# Altium schematic symbol library MK22FN128VDC10.SchLib: 2 symbols
Pins are listed as number, name and electrical type; pins without a type are passive.

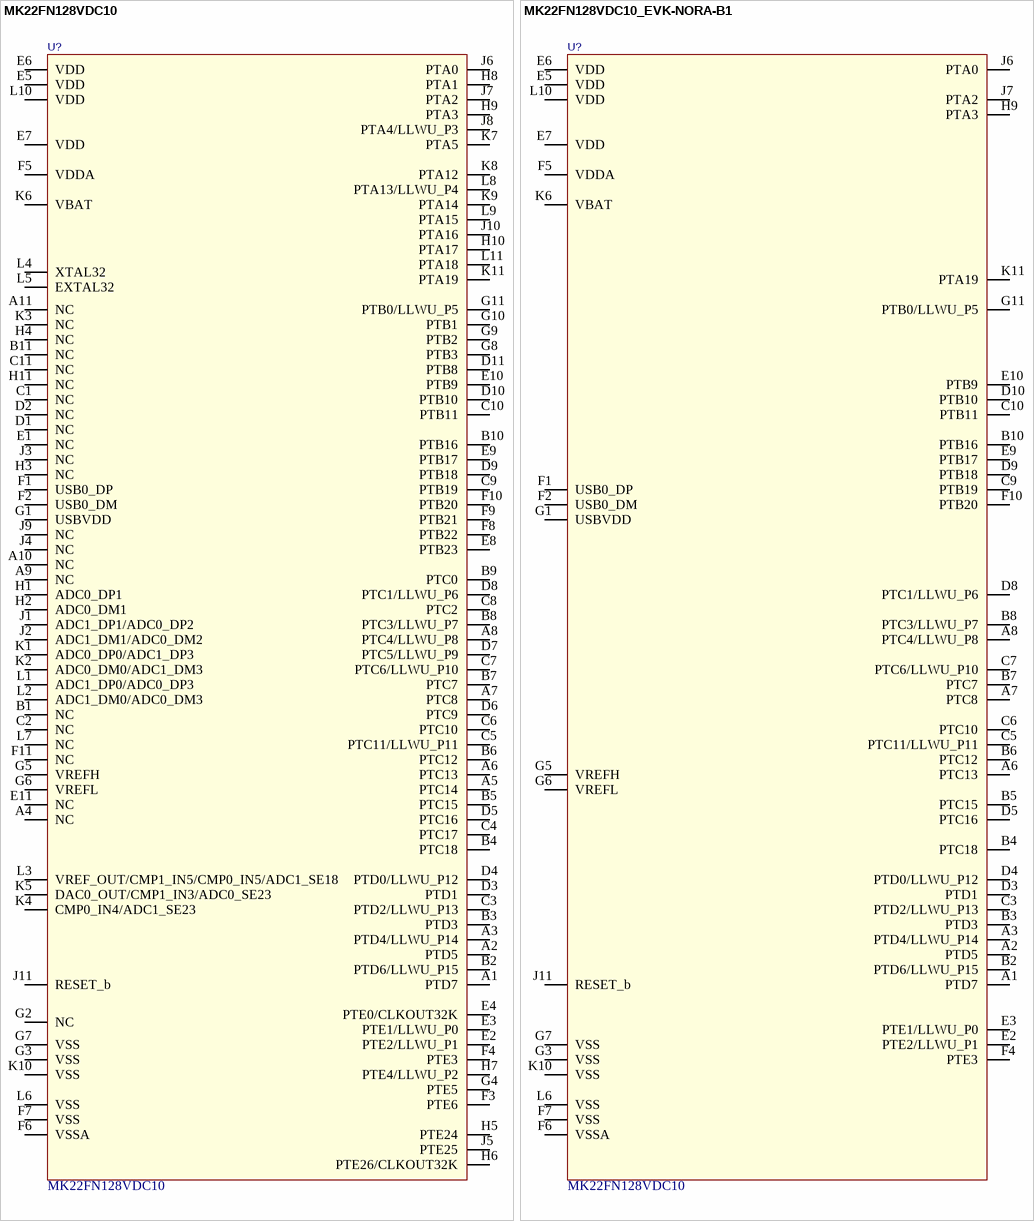
[diagram p0: symbols MK22FN128VDC10 to MK22FN128VDC10_EVK-NORA-B1]

## MK22FN128VDC10
designator U?
100MHz Cortex-M4F Performance MCU, 128kB Flash, 24kB SRAM, Full-Speed USB, BGA-121; Manufacturer: NXP; Part_Type: Microcontroller; Item_Phase: Unreleased; Body Size: 8mm x 8mm; Component Mounting Type: SMT; Core Bits: 32 Bit; Max Oper Temp in C: 105; MFG Package: XFBGA-121; Min Oper Temp in C: -40; SMT Pitch: 0.65mm; Use in new designs: Yes; Voltage: 3.6V; Manufacturer Part Number: MK22FN128VDC10; ComponentLink1URL: http://cache.freescale.com/files/microcontrollers/doc/data_sheet/K22P121M100SF9.pdf; ComponentLink1Description: Datasheet; ComponentLink2URL: https://cache.nxp.com/docs/en/package-information/98ASS23308W.pdf; ComponentLink2Description: Supplier link; HelpURL: *; Footprint Doc: XFBGA-121; Pin Count: 121; Value: MK22FN128VDC10; Note: *; Part Name: MK22FN128VDC10; Revision: 00; Manufacturer P/N: MK22FN128VDC10; Core Architecture: Cortex-M4F; Flash Size: 128kB; Package Type: XFBGA; Pins: 100; RAM Size: 24kB
footprint BGA0.5P8x8-121Ball (BGA 121Pin, 0.5mm pitch, 8mm x 8mm x 0.75mm, Medium Density)
pins: A1 PTD7, A2 PTD5, A3 PTD4/LLWU_P14, A4 NC, A5 PTC14, A6 PTC13, A7 PTC8, A8 PTC4/LLWU_P8, A9 NC, A10 NC, A11 NC, B1 NC, B2 PTD6/LLWU_P15, B3 PTD3, B4 PTC18, B5 PTC15, B6 PTC12, B7 PTC7, B8 PTC3/LLWU_P7, B9 PTC0, B10 PTB16, B11 NC, C1 NC, C2 NC, C3 PTD2/LLWU_P13, C4 PTC17, C5 PTC11/LLWU_P11, C6 PTC10, C7 PTC6/LLWU_P10, C8 PTC2, C9 PTB19, C10 PTB11, C11 NC, D1 NC, D2 NC, D3 PTD1, D4 PTD0/LLWU_P12, D5 PTC16, D6 PTC9, D7 PTC5/LLWU_P9, D8 PTC1/LLWU_P6, D9 PTB18, D10 PTB10, D11 PTB8, E1 NC, E2 PTE2/LLWU_P1, E3 PTE1/LLWU_P0, E4 PTE0/CLKOUT32K, E5 VDD, E6 VDD, E7 VDD, E8 PTB23, E9 PTB17, E10 PTB9, E11 NC, F1 USB0_DP, F2 USB0_DM, F3 PTE6, F4 PTE3, F5 VDDA, F6 VSSA, F7 VSS, F8 PTB22, F9 PTB21, F10 PTB20, F11 NC, G1 USBVDD, G2 NC, G3 VSS, G4 PTE5, G5 VREFH, G6 VREFL, G7 VSS, G8 PTB3, G9 PTB2, G10 PTB1, G11 PTB0/LLWU_P5, H1 ADC0_DP1, H2 ADC0_DM1, H3 NC, H4 NC, H5 PTE24, H6 PTE26/CLKOUT32K, H7 PTE4/LLWU_P2, H8 PTA1, H9 PTA3, H10 PTA17, H11 NC, J1 ADC1_DP1/ADC0_DP2, J2 ADC1_DM1/ADC0_DM2, J3 NC, J4 NC, J5 PTE25, J6 PTA0, J7 PTA2, J8 PTA4/LLWU_P3, J9 NC, J10 PTA16, J11 RESET_b, K1 ADC0_DP0/ADC1_DP3, K2 ADC0_DM0/ADC1_DM3, K3 NC, K4 CMP0_IN4/ADC1_SE23, K5 DAC0_OUT/CMP1_IN3/ADC0_SE23, K6 VBAT, K7 PTA5, K8 PTA12, K9 PTA14, K10 VSS, K11 PTA19, L1 ADC1_DP0/ADC0_DP3, L2 ADC1_DM0/ADC0_DM3, L3 VREF_OUT/CMP1_IN5/CMP0_IN5/ADC1_SE18, L4 XTAL32, L5 EXTAL32, L6 VSS, L7 NC, L8 PTA13/LLWU_P4, L9 PTA15, L10 VDD, L11 PTA18

## MK22FN128VDC10_EVK-NORA-B1
designator U?, comment MK22FN128VDC10
100MHz Cortex-M4F Performance MCU, 128kB Flash, 24kB SRAM, Full-Speed USB, BGA-121; Manufacturer: NXP; Part_Type: Microcontroller; Item_Phase: Unreleased; Body Size: 8mm x 8mm; Component Mounting Type: SMT; Core Bits: 32 Bit; Max Oper Temp in C: 105; MFG Package: XFBGA-121; Min Oper Temp in C: -40; SMT Pitch: 0.65mm; Use in new designs: Yes; Voltage: 3.6V; Manufacturer Part Number: MK22FN128VDC10; ComponentLink1URL: http://cache.freescale.com/files/microcontrollers/doc/data_sheet/K22P121M100SF9.pdf; ComponentLink1Description: Datasheet; ComponentLink2URL: https://cache.nxp.com/docs/en/package-information/98ASS23308W.pdf; ComponentLink2Description: Supplier link; HelpURL: *; Footprint Doc: XFBGA-121; Pin Count: 121; Value: MK22FN128VDC10; Note: *; Part Name: MK22FN128VDC10; Revision: 00; Manufacturer P/N: MK22FN128VDC10; Core Architecture: Cortex-M4F; Flash Size: 128kB; Package Type: XFBGA; Pins: 100; RAM Size: 24kB
footprint BGA0.5P8x8-121Ball (BGA 121Pin, 0.5mm pitch, 8mm x 8mm x 0.75mm, Medium Density)
pins: A1 PTD7, A2 PTD5, A3 PTD4/LLWU_P14, A6 PTC13, A7 PTC8, A8 PTC4/LLWU_P8, B2 PTD6/LLWU_P15, B3 PTD3, B4 PTC18, B5 PTC15, B6 PTC12, B7 PTC7, B8 PTC3/LLWU_P7, B10 PTB16, C3 PTD2/LLWU_P13, C5 PTC11/LLWU_P11, C6 PTC10, C7 PTC6/LLWU_P10, C9 PTB19, C10 PTB11, D3 PTD1, D4 PTD0/LLWU_P12, D5 PTC16, D8 PTC1/LLWU_P6, D9 PTB18, D10 PTB10, E2 PTE2/LLWU_P1, E3 PTE1/LLWU_P0, E5 VDD, E6 VDD, E7 VDD, E9 PTB17, E10 PTB9, F1 USB0_DP, F2 USB0_DM, F4 PTE3, F5 VDDA, F6 VSSA, F7 VSS, F10 PTB20, G1 USBVDD, G3 VSS, G5 VREFH, G6 VREFL, G7 VSS, G11 PTB0/LLWU_P5, H9 PTA3, J6 PTA0, J7 PTA2, J11 RESET_b, K6 VBAT, K10 VSS, K11 PTA19, L6 VSS, L10 VDD